# Altium schematic symbol library SCH - RF - SHIELD - EMI SHIELD.SchLib: 1 symbol
Pins are listed as number, name and electrical type; pins without a type are passive.

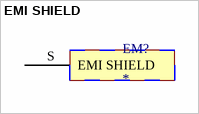
[diagram p0: symbol EMI SHIELD]

## EMI SHIELD
designator EM?
pins: S EMI SHIELD